# EAGLE library part CON_02X10_VERT_100 (library SLJ_Connectors)
Connector Header Through Hole 20 position 0.100" (2.54mm)
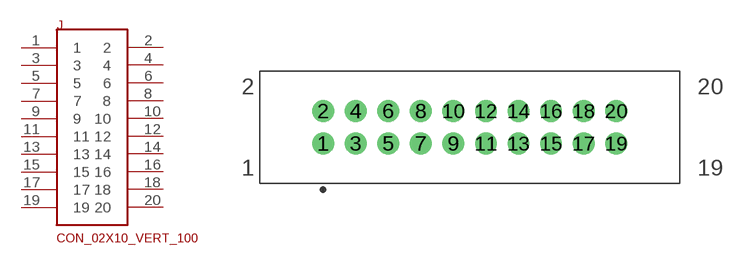
[diagram p2: symbol with the pads of HDRV20W64P254_2X10_3276X876X838B; footprint HDRV20W64P254_2X10_3276X876X838B]

Designator prefix J

## CON_02X10_VERT_100 (MANUFACTURER: AMPHENOL FCI; PART_NUMBER: 52601-S20-4LF; VALUE: 02X20)  [HDRV20W64P254_2X10_3276X876X838B]
1  1
2  2
3  3
4  4
5  5
6  6
7  7
8  8
9  9
10  10
11  11
12  12
13  13
14  14
15  15
16  16
17  17
18  18
19  19
20  20

## Footprint HDRV20W64P254_2X10_3276X876X838B (pad centres in mm)
Double-row, 20-pin Pin Header (Male) Straight, 2.54 mm (0.10 in) row pitch, 2.54 mm (0.10 in) col pitch, 5.84 mm mating length, 32.76 X 8.76 X 8.38 mm body Double-row (2X10), 20-pin Pin Header (Male) Straight package with 2.54 mm (0.10 in) row pitch, 2.54 mm (0.10 in) col pitch, 0.64 mm lead width, 3.00 mm tail length and 5.84 mm mating length with overall size 32.76 X 8.76 X 8.38 mm, pin pattern - zigzag from bottom left
drill 1.105 pad 1.705: 1 0,0; 2 0,2.54; 3 2.54,0; 4 2.54,2.54; 5 5.08,0; 6 5.08,2.54; 7 7.62,0; 8 7.62,2.54; 9 10.16,0; 10 10.16,2.54; 11 12.7,0; 12 12.7,2.54; 13 15.24,0; 14 15.24,2.54; 15 17.78,0; 16 17.78,2.54; 17 20.32,0; 18 20.32,2.54; 19 22.86,0; 20 22.86,2.54